# Altium footprint library PcbLib_ADH.PcbLib: 136 footprints (part 9 of 9)
Each footprint in its own frame and in the unit in brackets; x right, y up, seen from the top. Pads: shape width x height; smd on the part's side, far side on the other; paste and mask are expansions set on the pad; w line width, h text height; cw(c..) or ccw(c..) is an arc to the next point about the centre after c.
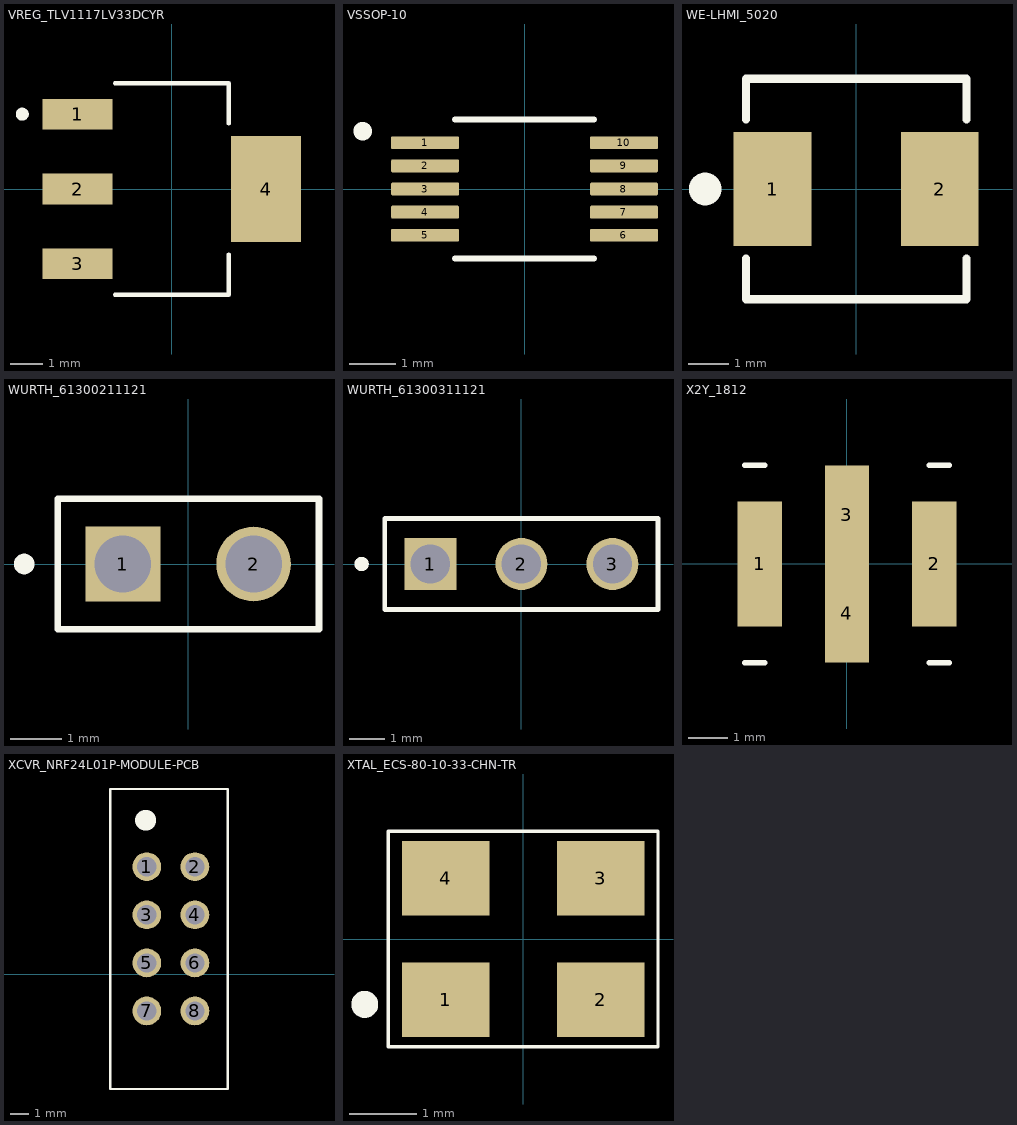
[diagram p8: the footprints below, top view; thin cyan lines are the x and y axes]

## VREG_TLV1117LV33DCYR [mm]
height 1.8
pads (4):
  rect 2.15x0.95 smd: 1(-2.9,2.3) 2(-2.9,0) 3(-2.9,-2.3)
  rect 2.15x3.25 smd: 4(2.9,0)
Top Overlay:
  circle w0.2: c-4.6,2.3 r0.1
  lines w0.127: -1.75,-3.25 1.75,-3.25 1.75,-2.01 ; -1.75,3.25 1.75,3.25 1.75,2.01
3D body "step_temp.STEP": height 1.8, standoff 0, extent -3.499,-3.25 3.499,3.25

## VSSOP-10 [mm]
pads (10):
  rrect25% 1.47x0.28 smd: 1(-2.15,1) 2(-2.15,0.5) 3(-2.15,0) 4(-2.15,-0.5) 5(-2.15,-1) 6(2.15,-1) 7(2.15,-0.5) 8(2.15,0) 9(2.15,0.5) 10(2.15,1)
Top Overlay:
  circle w0.2: c-3.5,1.25 r0.1
  lines w0.127: -1.5,-1.5 1.5,-1.5 ; -1.5,1.5 1.5,1.5
3D body "TPS53015DGSR.STEP": height 0.96, standoff -0.14, extent -2.45,-1.5 2.45,1.5

## WE-LHMI_5020 [mm]
pads (2):
  rect 1.9x2.8 smd paste+0 mask+0.102: 1(-2.05,0) 2(2.05,0)
Top Overlay:
  circle w0.4: c-3.7,0 r0.2
  lines w0.2: -2.7,-1.7 -2.7,-2.7 2.7,-2.7 2.7,-1.7 ; -2.7,1.7 -2.7,2.7 2.7,2.7 2.7,1.7
3D body "step_temp.STEP": height 1.81, standoff 0.01, extent -2.85,-2.6 2.85,2.6

## WURTH_61300211121 [mm]
pads (2):
  rect 1.45x1.45 / inner round 1.45 / far side rect 1.45x1.45 hole 1.1 mask+0.05: 1(-1.27,0)
  round 1.45 hole 1.1 mask+0.05: 2(1.27,0)
Top Overlay:
  circle w0.2: c-3.19,0 r0.1
  lines w0.127: -2.54,-1.27 -2.54,1.27 2.54,1.27 2.54,-1.27 -2.54,-1.27

## WURTH_61300311121 [mm]
pads (3):
  rect 1.45x1.45 / inner round 1.45 / far side rect 1.45x1.45 hole 1.1 mask+0.05: 1(-2.54,0)
  round 1.45 hole 1.1 mask+0.05: 2(0,0) 3(2.54,0)
Top Overlay:
  circle w0.2: c-4.46,0 r0.1
  lines w0.127: -3.81,-1.27 -3.81,1.27 3.81,1.27 3.81,-1.27 -3.81,-1.27
3D body "61300311121.stp": height 8.05, standoff -3.49, extent -3.81,-1.27 3.81,1.27

## X2Y_1812 [mm]
pads (4):
  rect 1.118x3.175 smd: 1(-2.21,0) 2(2.21,0)
  rect 1.118x2.5 smd: 3(0,1.25) 4(0,-1.25)
Top Overlay:
  lines w0.127: -2.6,-2.5 -2.075,-2.5 ; -2.6,2.5 -2.075,2.5 ; 2.075,-2.5 2.6,-2.5 ; 2.075,2.5 2.6,2.5
3D body "X43.step": height 2.29, standoff 0, extent -2.337,-1.714 2.337,1.714

## XCVR_NRF24L01P-MODULE-PCB [mil]
pads (8):
  round 60 hole 40: 1(-601.75,223.19) 2(-501.75,223.19) 3(-601.75,123.19) 4(-501.75,123.19) 5(-601.75,23.18) 6(-501.75,23.18) 7(-601.75,-76.81) 8(-501.75,-76.81)
Top Overlay:
  circle w39.37: c-604.33,319.88 r1.97
  lines w5: -678.15,-239.17 -433.07,-239.17 -433.07,384.84 -678.15,384.84 -678.15,-239.17
3D body "NRF24L01L+Antenna.STEP": height 718.15, standoff -98.43, extent -671.26,-231.3 5289.37,378.94

## XTAL_ECS-80-10-33-CHN-TR [mm]
pads (4):
  rect 1.3x1.1 smd: 1(-1.15,-0.9) 2(1.15,-0.9) 3(1.15,0.9) 4(-1.15,0.9)
Top Overlay:
  circle w0.2: c-2.35,-0.97 r0.1
  lines w0.05: -2,-1.6 2,-1.6 2,1.6 -2,1.6 -2,-1.6
3D body "ECS-80-10-33-CHN-TR.STEP": height 0.81, standoff 0.01, extent -1.6,-1.25 1.6,1.25